# EAGLE library part SN74ALVTH16244GR (library nall)
The ?ALVTH16244 devices are 16-bit buffers/line drivers designed for 2.5-V or 3.3-V VCC operation, but with the capability to provide a TTL interface to a 5-V system environment. These devices can be used as four 4-bit buffers, two 8-bit buffers, or one 16-bit buffer.
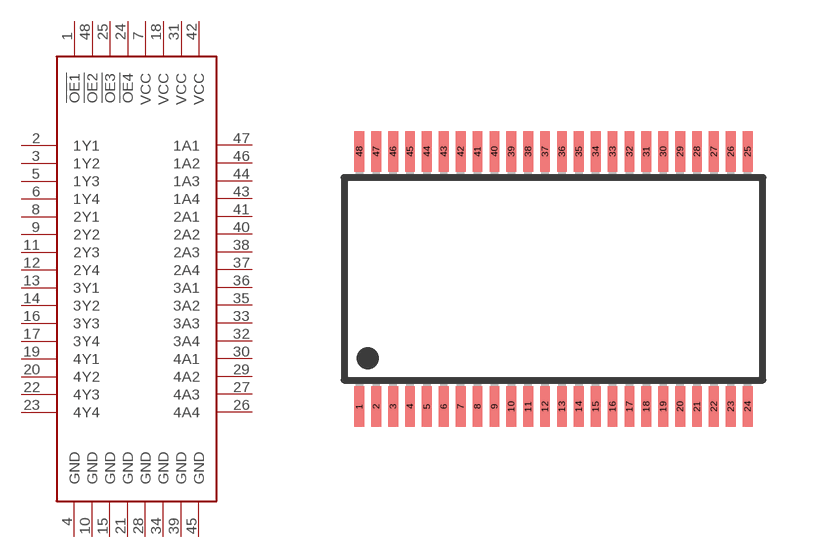
[diagram p0: symbol with the pads of TSSOP48; footprint TSSOP48]

Designator prefix -

## SN74ALVTH16244GR  [TSSOP48]
1  !OE1  in
2  1Y1
3  1Y2
4  GND  sup
5  1Y3
6  1Y4
7  VCC  pwr
8  2Y1
9  2Y2
10  GND  sup
11  2Y3
12  2Y4
13  3Y1
14  3Y2
15  GND  sup
16  3Y3
17  3Y4
18  VCC  pwr
19  4Y1
20  4Y2
21  GND  sup
22  4Y3
23  4Y4
24  !OE4  in
25  !OE3  in
26  4A4
27  4A3
28  GND  sup
29  4A2
30  4A1
31  VCC  pwr
32  3A4
33  3A3
34  GND  sup
35  3A2
36  3A1
37  2A4
38  2A3
39  GND  sup
40  2A2
41  2A1
42  VCC  pwr
43  1A4
44  1A3
45  GND  sup
46  1A2
47  1A1
48  !OE2  in

## Footprint TSSOP48 (pad centres in mm)
Plastic Small Outline
smd 0.29 x 1.2: 1 -5.75,-3.775; 2 -5.25,-3.775; 3 -4.75,-3.775; 4 -4.25,-3.775; 5 -3.75,-3.775; 6 -3.25,-3.775; 7 -2.75,-3.775; 8 -2.25,-3.775; 9 -1.75,-3.775; 10 -1.25,-3.775; 11 -0.75,-3.775; 12 -0.25,-3.775; 13 0.25,-3.775; 14 0.75,-3.775; 15 1.25,-3.775; 16 1.75,-3.775; 17 2.25,-3.775; 18 2.75,-3.775; 19 3.25,-3.775; 20 3.75,-3.775; 21 4.25,-3.775; 22 4.75,-3.775; 23 5.25,-3.775; 24 5.75,-3.775; 25 5.75,3.775; 26 5.25,3.775; 27 4.75,3.775; 28 4.25,3.775; 29 3.75,3.775; 30 3.25,3.775; 31 2.75,3.775; 32 2.25,3.775; 33 1.75,3.775; 34 1.25,3.775; 35 0.75,3.775; 36 0.25,3.775; 37 -0.25,3.775; 38 -0.75,3.775; 39 -1.25,3.775; 40 -1.75,3.775; 41 -2.25,3.775; 42 -2.75,3.775; 43 -3.25,3.775; 44 -3.75,3.775; 45 -4.25,3.775; 46 -4.75,3.775; 47 -5.25,3.775; 48 -5.75,3.775